# EAGLE library part L6208 (library Radicon)
L6208 DMOS DRIVER FOR BIPOLAR STEPPER MOTOR
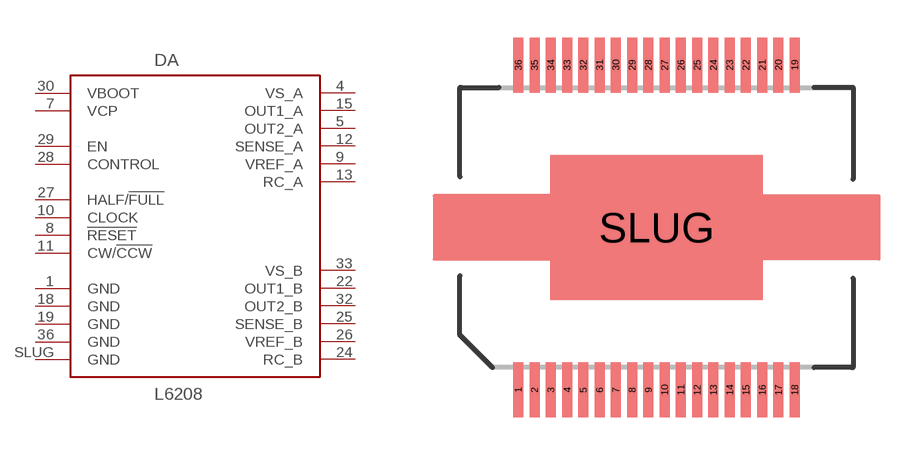
[diagram p50: symbol with the pads of POWERSO-36; footprint POWERSO-36]

Designator prefix DA

## L6208PD  [POWERSO-36]
1  GND
4  VS_A
5  OUT2_A
7  VCP
8  !RESET
9  VREF_A
10  CLOCK
11  CW/!CCW
12  SENSE_A
13  RC_A
15  OUT1_A
18  GND
19  GND
22  OUT1_B
24  RC_B
25  SENSE_B
26  VREF_B
27  HALF/!FULL
28  CONTROL
29  EN
30  VBOOT
32  OUT2_B
33  VS_B
36  GND
SLUG  GND

## Footprint POWERSO-36 (pad centres in mm)
Power Small Outline
smd 0.4 x 2.2: 1 -5.525,-6.5; 2 -4.875,-6.5; 3 -4.225,-6.5; 4 -3.575,-6.5; 5 -2.925,-6.5; 6 -2.275,-6.5; 7 -1.625,-6.5; 8 -0.975,-6.5; 9 -0.325,-6.5; 10 0.325,-6.5; 11 0.975,-6.5; 12 1.625,-6.5; 13 2.275,-6.5; 14 2.925,-6.5; 15 3.575,-6.5; 16 4.225,-6.5; 17 4.875,-6.5; 18 5.525,-6.5; 19 5.525,6.5; 20 4.875,6.5; 21 4.225,6.5; 22 3.575,6.5; 23 2.925,6.5; 24 2.275,6.5; 25 1.625,6.5; 26 0.975,6.5; 27 0.325,6.5; 28 -0.325,6.5; 29 -0.975,6.5; 30 -1.625,6.5; 31 -2.275,6.5; 32 -2.925,6.5; 33 -3.575,6.5; 34 -4.225,6.5; 35 -4.875,6.5; 36 -5.525,6.5
smd 8.5 x 5.8: SLUG 0,0